# Altium schematic symbol library SAA1064.Schlib: 1 symbol
Pins are listed as number, name and electrical type; pins without a type are passive.

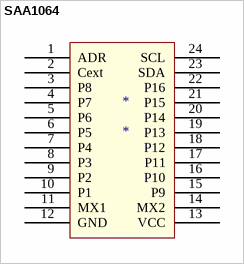
[diagram p0: symbol SAA1064]

## SAA1064
designator *
pins: 1 ADR, 2 Cext, 3 P8, 4 P7, 5 P6, 6 P5, 7 P4, 8 P3, 9 P2, 10 P1, 11 MX1, 12 GND, 13 VCC, 14 MX2, 15 P9, 16 P10, 17 P11, 18 P12, 19 P13, 20 P14, 21 P15, 22 P16, 23 SDA, 24 SCL